# EAGLE library part IDT70V25 (library 1_spektrak)
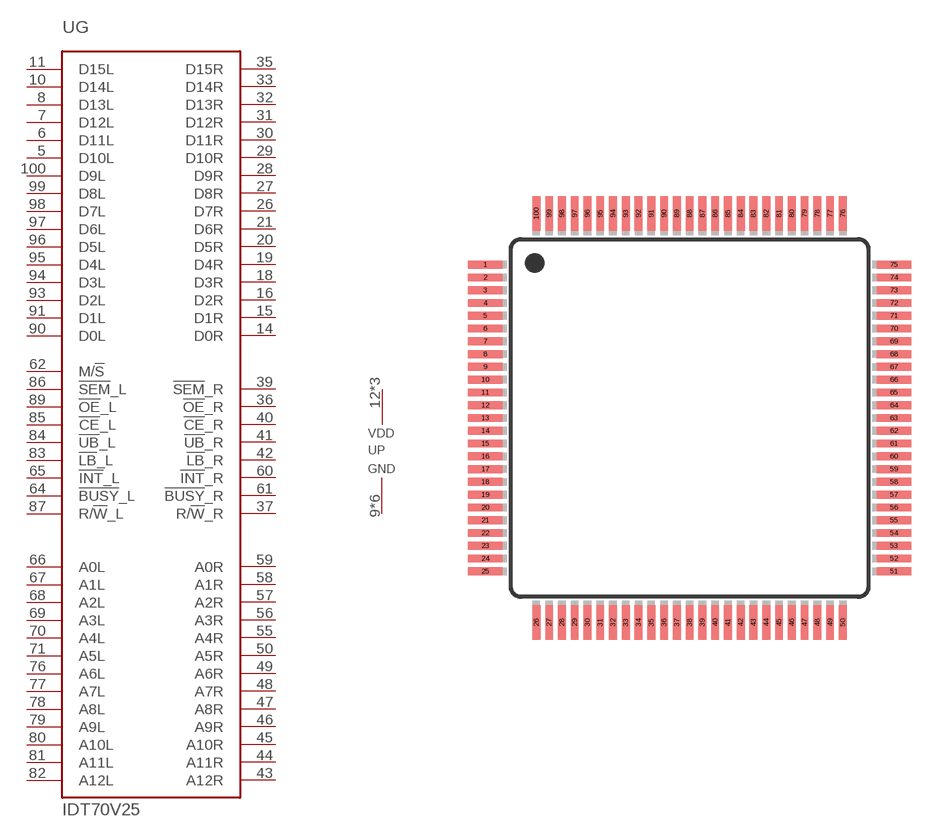
[diagram p34: symbol with the pads of TQFP100; footprint TQFP100]

Designator prefix U; gates G=IDT70V25 P=PWRGND

## IDT70V25  [TQFP100]
5  G:D10L
6  G:D11L
7  G:D12L
8  G:D13L
9  P:GND  pwr
10  G:D14L
11  G:D15L
12  P:VDD  pwr
13  P:GND  pwr
14  G:D0R
15  G:D1R
16  G:D2R
17  P:VDD  pwr
18  G:D3R
19  G:D4R
20  G:D5R
21  G:D6R
26  G:D7R
27  G:D8R
28  G:D9R
29  G:D10R
30  G:D11R
31  G:D12R
32  G:D13R
33  G:D14R
34  P:GND  pwr
35  G:D15R
36  G:!OE!_R  in
37  G:R/!W!_R  in
38  P:GND  pwr
39  G:!SEM!_R  in
40  G:!CE!_R  in
41  G:!UB!_R  in
42  G:!LB!_R  in
43  G:A12R  in
44  G:A11R  in
45  G:A10R  in
46  G:A9R  in
47  G:A8R  in
48  G:A7R  in
49  G:A6R  in
50  G:A5R  in
55  G:A4R  in
56  G:A3R  in
57  G:A2R  in
58  G:A1R  in
59  G:A0R  in
60  G:!INT!_R  out
61  G:!BUSY!_R  out
62  G:M/!S!  in
63  P:GND  pwr
64  G:!BUSY!_L  out
65  G:!INT!_L  out
66  G:A0L  in
67  G:A1L  in
68  G:A2L  in
69  G:A3L  in
70  G:A4L  in
71  G:A5L  in
76  G:A6L  in
77  G:A7L  in
78  G:A8L  in
79  G:A9L  in
80  G:A10L  in
81  G:A11L  in
82  G:A12L  in
83  G:!LB!_L  in
84  G:!UB!_L  in
85  G:!CE!_L  in
86  G:!SEM!_L  in
87  G:R/!W!_L  in
88  P:VDD  pwr
89  G:!OE!_L  in
90  G:D0L
91  G:D1L
92  P:GND  pwr
93  G:D2L
94  G:D3L
95  G:D4L
96  G:D5L
97  G:D6L
98  G:D7L
99  G:D8L
100  G:D9L

## Footprint TQFP100 (pad centres in mm)
100-lead Thin Quad Flat Pack Package
smd 1.346 x 0.305: 1 -8,6; 2 -8,5.5; 3 -8,5; 4 -8,4.5; 5 -8,4; 6 -8,3.5; 7 -8,3; 8 -8,2.5; 9 -8,2; 10 -8,1.5; 11 -8,1; 12 -8,0.5; 13 -8,0; 14 -8,-0.5; 15 -8,-1; 16 -8,-1.5; 17 -8,-2; 18 -8,-2.5; 19 -8,-3; 20 -8,-3.5; 21 -8,-4; 22 -8,-4.5; 23 -8,-5; 24 -8,-5.5; 25 -8,-6; 51 8,-6; 52 8,-5.5; 53 8,-5; 54 8,-4.5; 55 8,-4; 56 8,-3.5; 57 8,-3; 58 8,-2.5; 59 8,-2; 60 8,-1.5; 61 8,-1; 62 8,-0.5; 63 8,0; 64 8,0.5; 65 8,1; 66 8,1.5; 67 8,2; 68 8,2.5; 69 8,3; 70 8,3.5; 71 8,4; 72 8,4.5; 73 8,5; 74 8,5.5; 75 8,6
smd 0.305 x 1.346: 26 -6,-8; 27 -5.5,-8; 28 -5,-8; 29 -4.5,-8; 30 -4,-8; 31 -3.5,-8; 32 -3,-8; 33 -2.5,-8; 34 -2,-8; 35 -1.5,-8; 36 -1,-8; 37 -0.5,-8; 38 0,-8; 39 0.5,-8; 40 1,-8; 41 1.5,-8; 42 2,-8; 43 2.5,-8; 44 3,-8; 45 3.5,-8; 46 4,-8; 47 4.5,-8; 48 5,-8; 49 5.5,-8; 50 6,-8; 76 6,8; 77 5.5,8; 78 5,8; 79 4.5,8; 80 4,8; 81 3.5,8; 82 3,8; 83 2.5,8; 84 2,8; 85 1.5,8; 86 1,8; 87 0.5,8; 88 0,8; 89 -0.5,8; 90 -1,8; 91 -1.5,8; 92 -2,8; 93 -2.5,8; 94 -3,8; 95 -3.5,8; 96 -4,8; 97 -4.5,8; 98 -5,8; 99 -5.5,8; 100 -6,8